# EAGLE library part SI8630BD-B-IS (library precision_tACS)
Digital isolator
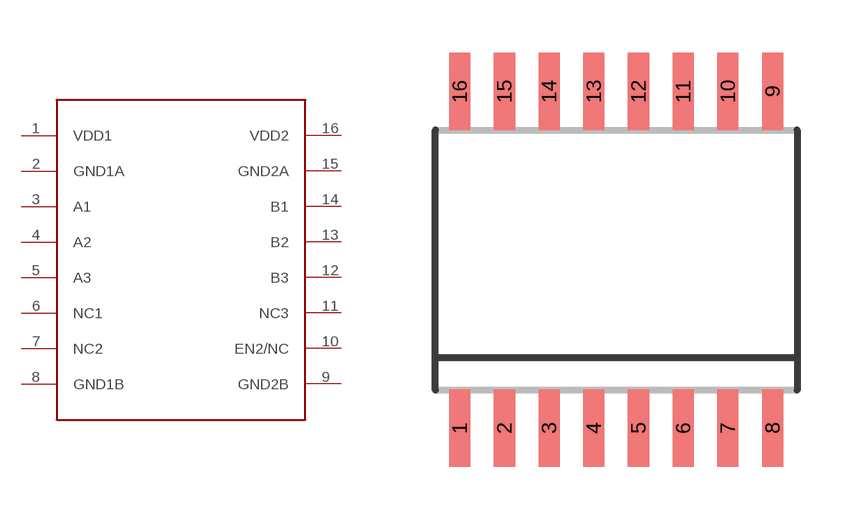
[diagram p1: symbol with the pads of SOIC16R; footprint SOIC16R]

Designator prefix -

## SI8630BD-B-IS  [SOIC16R]
1  VDD1
2  GND1A
3  A1
4  A2
5  A3
6  NC1
7  NC2
8  GND1B
9  GND2B
10  EN2/NC
11  NC3
12  B3
13  B2
14  B1
15  GND2A
16  VDD2

## Footprint SOIC16R (pad centres in mm)
16-Lead SOIC (R) Package Source: http://www.analog.com/static/imported-files/data_sheets/AD745.pdf
smd 0.6 x 2.2: 1 -4.445,-4.775; 2 -3.175,-4.775; 3 -1.905,-4.775; 4 -0.635,-4.775; 5 0.635,-4.775; 6 1.905,-4.775; 7 3.175,-4.775; 8 4.445,-4.775; 9 4.445,4.8; 10 3.175,4.8; 11 1.905,4.8; 12 0.635,4.8; 13 -0.635,4.8; 14 -1.905,4.8; 15 -3.175,4.8; 16 -4.445,4.8